# Altium footprint library 监测站_PCBLIB.PcbLib: 30 footprints (part 2 of 2)
Each footprint in its own frame and in the unit in brackets; x right, y up, seen from the top. Pads: shape width x height; smd on the part's side, far side on the other; paste and mask are expansions set on the pad; w line width, h text height; cw(c..) or ccw(c..) is an arc to the next point about the centre after c.
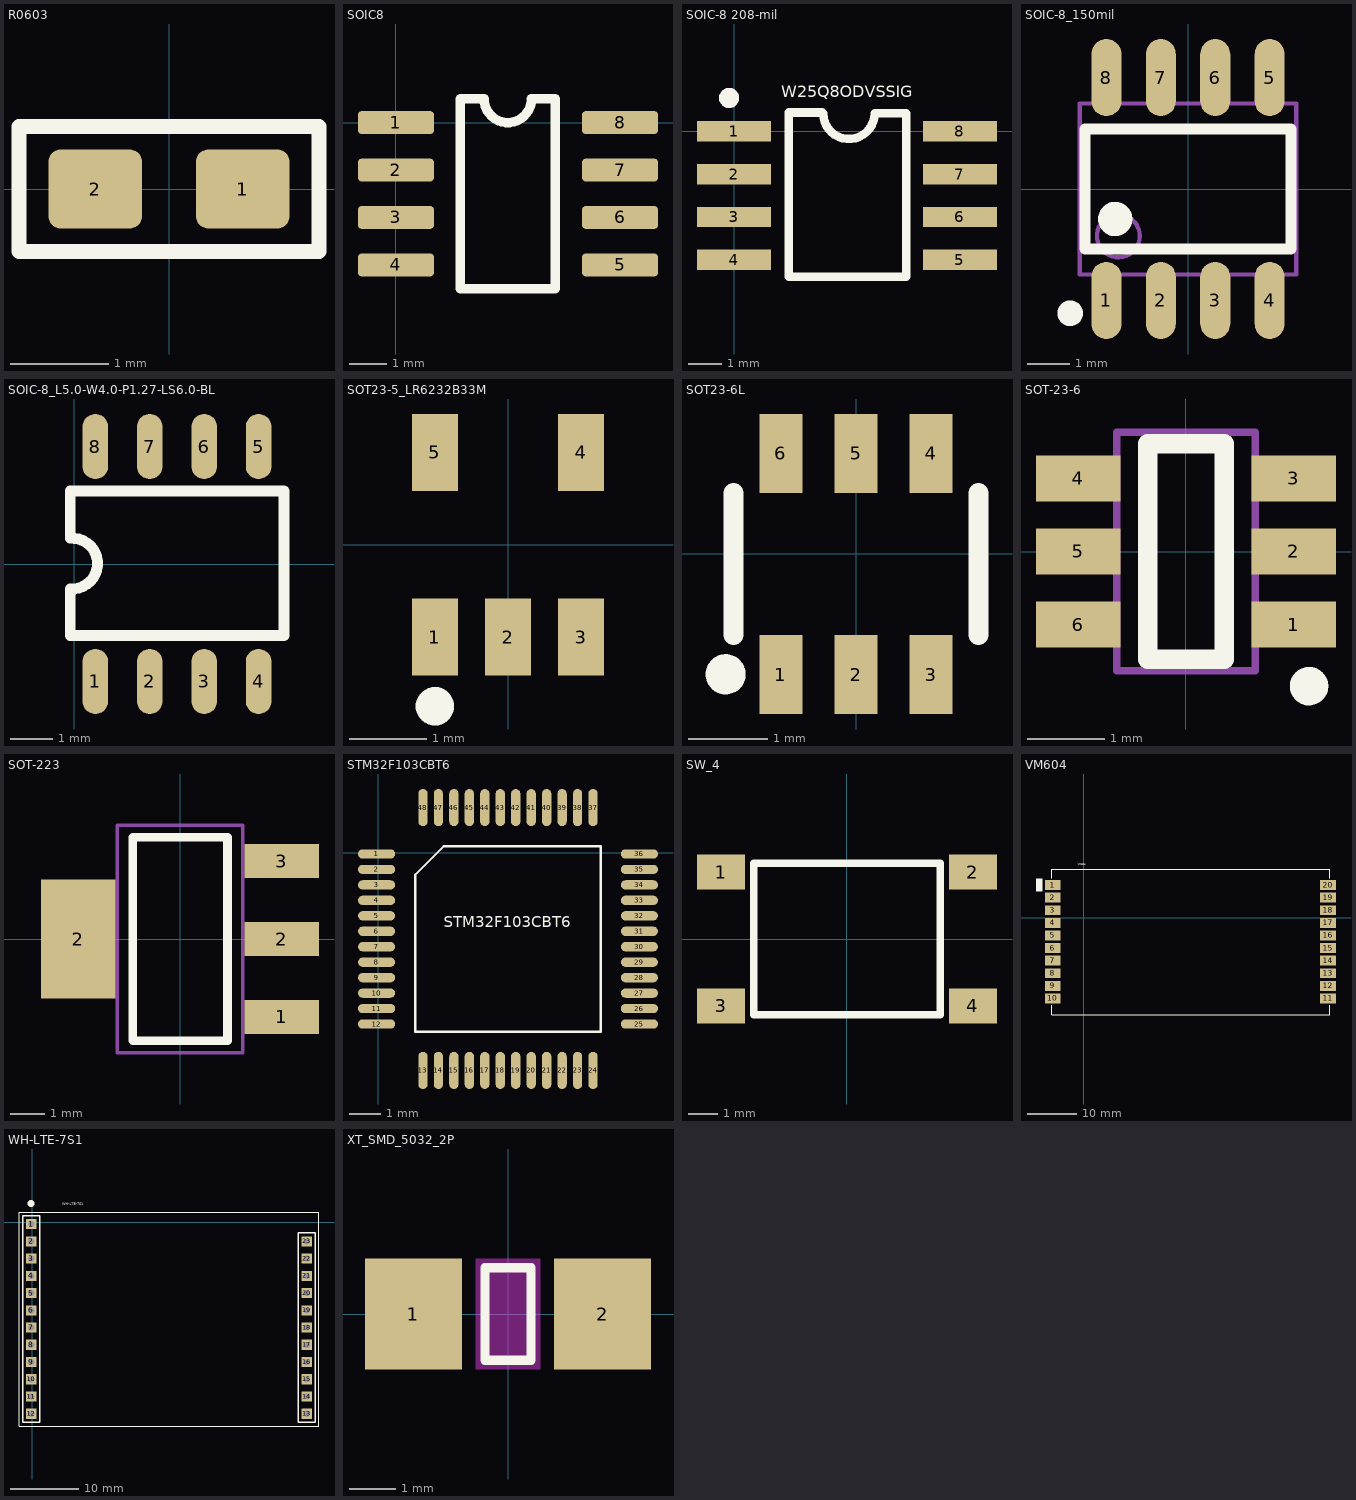
[diagram p1: the footprints below, top view; thin cyan lines are the x and y axes]

## R0603 [mm]
pads (2):
  rrect30% 0.95x0.8 smd: 1(0.75,0) 2(-0.75,0)
Top Overlay:
  lines w0.152: -1.524,-0.635 -1.524,0.635 1.524,0.635 1.524,-0.635 -1.524,-0.635
3D body: height 0.4, standoff 0.1, extent -0.813,-0.406 0.813,0.406

## SOIC8 [mil]
pads (8):
  rrect30% 80x24 smd: 1(0,0) 2(0,-50) 3(0,-100) 4(0,-150) 5(236.22,-150) 6(236.22,-100) 7(236.22,-50) 8(236.22,0)
Top Overlay:
  lines w10: 67.87,-175 167.87,-175 167.87,25 142.87,25 cw(c117.87,25) 92.87,25 67.87,25 67.87,-175

## SOIC-8 208-mil [mm]
pads (8):
  rect 2.2x0.6 smd: 1(0,0) 2(0,-1.27) 3(0,-2.54) 4(0,-3.81) 5(6.7,-3.81) 6(6.7,-2.54) 7(6.7,-1.27) 8(6.7,0)
Top Overlay:
  circle w0.3: c-0.148,0.991 r0.15
  lines w0.254: 2.619,0.559 1.628,0.559 1.628,-4.318 5.108,-4.318 5.108,0.533 4.168,0.533 cw(c3.406,0.533) 2.644,0.533
  text "W25Q8ODVSSIG" at 1.397,0.889 h0.6
3D body: height 1.75, standoff -0.01, extent 0.177,-4.42 6.376,0.58

## SOIC-8_150mil [mm]
pads (8):
  oval 0.7x1.8 smd: 1(-1.905,-2.6) 2(-0.635,-2.6) 3(0.635,-2.6) 4(1.905,-2.6) 5(1.905,2.6) 6(0.635,2.6) 7(-0.635,2.6) 8(-1.905,2.6)
Top Overlay:
  circle w0.3: c-2.75,-2.9 r0.15
  circle w0.4: c-1.7,-0.7 r0.2
  lines w0.254: -2.4,-1.4 2.4,-1.4 2.4,1.4 -2.4,1.4 -2.4,-1.4
Mechanical 13:
  circle w0.1: c-1.625,-1.095 r0.5
  lines w0.1: -2.525,-1.995 2.525,-1.995 2.525,1.995 -2.525,1.995 -2.525,-1.995

## SOIC-8_L5.0-W4.0-P1.27-LS6.0-BL [mm]
pads (8):
  oval 0.6x1.52 smd: 1(0.495,-2.74) 2(1.765,-2.74) 3(3.035,-2.74) 4(4.305,-2.74) 5(4.305,2.74) 6(3.035,2.74) 7(1.765,2.74) 8(0.495,2.74)
Top Overlay:
  lines w0.254: -0.09,-1.671 -0.09,-0.58 ccw(c-0.045,0.01) -0.09,0.6 -0.09,1.7 4.9,1.7 4.9,-1.671 -0.09,-1.671

## SOT23-5_LR6232B33M [mm]
pads (5):
  rect 0.6x1 smd: 1(-0.95,-1.2) 2(0,-1.2) 3(0.95,-1.2) 4(0.95,1.2) 5(-0.95,1.2)
Top Overlay:
  circle w0.3: c-0.95,-2.1 r0.1
3D body: height 1, standoff 0, extent -1.5,-1.453 1.5,1.451

## SOT23-6L [mm]
pads (6):
  rect 0.55x1 smd: 1(-0.95,-1.527) 2(0,-1.527) 3(0.95,-1.527) 4(0.95,1.273) 5(0,1.273) 6(-0.95,1.273)
Top Overlay:
  circle w0.254: c-1.651,-1.524 r0.127
  lines w0.254: -1.55,-1.027 -1.55,0.773 ; 1.55,-1.027 1.55,0.773

## SOT-23-6 [mm]
pads (6):
  rect 1.1x0.6 smd: 1(1.4,-0.95) 2(1.4,0) 3(1.4,0.95) 4(-1.4,0.95) 5(-1.4,0) 6(-1.4,-0.95)
Top Overlay:
  circle w0.25: c1.6,-1.75 r0.125
  lines w0.254: -0.5,-1.4 0.5,-1.4 0.5,1.4 -0.5,1.4 -0.5,-1.4
Mechanical 13:
  lines w0.1: -0.9,-1.55 0.9,-1.55 0.9,1.55 -0.9,1.55 -0.9,-1.55

## SOT-223 [mm]
pads (4):
  rect 2.2x1 smd: 1(3,-2.3) 2(3,0) 3(3,2.3)
  rect 2.2x3.5 smd: 2(-3,0)
Top Overlay:
  lines w0.254: -1.4,-3 -1.4,3 1.4,3 1.4,-3 -1.4,-3
Mechanical 13:
  lines w0.1: -1.85,-3.35 1.85,-3.35 1.85,3.35 -1.85,3.35 -1.85,-3.35
3D body: height 1.64, standoff -0.04, extent -3.49,-3.242 3.49,3.243

## STM32F103CBT6 [mm]
pads (48):
  oval 1.2x0.3 smd: 1(-0.059,-0.044) 2(-0.059,-0.544) 3(-0.059,-1.044) 4(-0.059,-1.544) 5(-0.059,-2.044) 6(-0.059,-2.544) 7(-0.059,-3.044) 8(-0.059,-3.544) 9(-0.059,-4.044) 10(-0.059,-4.544) 11(-0.059,-5.044) 12(-0.059,-5.544) 25(8.441,-5.544) 26(8.441,-5.044) 27(8.441,-4.544) 28(8.441,-4.044) 29(8.441,-3.544) 30(8.441,-3.044) 31(8.441,-2.544) 32(8.441,-2.044) 33(8.441,-1.544) 34(8.441,-1.044) 35(8.441,-0.544) 36(8.441,-0.044)
  oval 0.3x1.2 smd: 13(1.441,-7.044) 14(1.941,-7.044) 15(2.441,-7.044) 16(2.941,-7.044) 17(3.441,-7.044) 18(3.941,-7.044) 19(4.441,-7.044) 20(4.941,-7.044) 21(5.441,-7.044) 22(5.941,-7.044) 23(6.441,-7.044) 24(6.941,-7.044) 37(6.941,1.456) 38(6.441,1.456) 39(5.941,1.456) 40(5.441,1.456) 41(4.941,1.456) 42(4.441,1.456) 43(3.941,1.456) 44(3.441,1.456) 45(2.941,1.456) 46(2.441,1.456) 47(1.941,1.456) 48(1.441,1.456)
Top Overlay:
  lines w0.076: 1.191,-5.794 7.191,-5.794 7.191,0.206 2.111,0.206 1.191,-0.714 1.191,-5.794
  text "STM32F103CBT6" at 2.111,-2.544 h0.6

## SW_4 [mm]
pads (4):
  rect 1.65x1.2 smd: 1(-4.325,2.3) 2(4.325,2.3) 3(-4.325,-2.3) 4(4.325,-2.3)
Top Overlay:
  lines w0.254: -3.2,-2.6 -3.2,2.6 3.2,2.6 3.2,-2.6 -3.2,-2.6

## VM604 [mm]
pads (20):
  rect 3.2x2 smd: 1(-6.277,6.604) 2(-6.277,4.064) 3(-6.277,1.524) 4(-6.277,-1.016) 5(-6.277,-3.556) 6(-6.277,-6.096) 7(-6.277,-8.636) 8(-6.277,-11.176) 9(-6.277,-13.716) 10(-6.277,-16.256) 11(49.203,-16.256) 12(49.203,-13.716) 13(49.203,-11.176) 14(49.203,-8.636) 15(49.203,-6.096) 16(49.203,-3.556) 17(49.203,-1.016) 18(49.203,1.524) 19(49.203,4.064) 20(49.203,6.604)
Top Overlay:
  rectangle: -9.652,5.334 -8.382,7.874
  lines w0.152: -6.477,-17.646 -6.477,-19.551 49.523,-19.551 49.523,-17.646 ; -6.477,7.924 -6.477,9.829 49.523,9.829 49.523,7.924
  text "VM604" at -1.27,10.414 h0.6

## WH-LTE-7S1 [mm]
pads (23):
  rect 1.5x1.5 hole 0.9: 1(-0.127,-0.254) 2(-0.127,-2.794) 3(-0.127,-5.334) 4(-0.127,-7.874) 5(-0.127,-10.414) 6(-0.127,-12.954) 7(-0.127,-15.494) 8(-0.127,-18.034) 9(-0.127,-20.574) 10(-0.127,-23.114) 11(-0.127,-25.654) 12(-0.127,-28.194) 13(40.473,-28.194) 14(40.473,-25.654) 15(40.473,-23.114) 16(40.473,-20.574) 17(40.473,-18.034) 18(40.473,-15.494) 19(40.473,-12.954) 20(40.473,-10.414) 21(40.473,-7.874) 22(40.473,-5.334) 23(40.473,-2.794)
Top Overlay:
  circle w0.762: c-0.149,2.776 r0.127
  lines w0.152: -1.927,-29.994 -1.927,1.506 42.273,1.506 42.273,-29.994 -1.927,-29.994
  lines w0.2: -1.397,-29.464 -1.397,1.016 1.143,1.016 1.143,-0.889 1.143,-29.464 -1.397,-29.464 ; 39.203,-29.464 39.203,-1.524 41.743,-1.524 41.743,-3.429 41.743,-29.464 39.203,-29.464
  text "WH-LTE-7S1" at 4.445,2.413 h0.6

## XT_SMD_5032_2P [mm]
pads (2):
  rect 2.1x2.4 smd: 1(-2.05,0) 2(2.05,0)
Top Overlay:
  lines w0.2: -0.5,-1 0.5,-1 0.5,1 -0.5,1 -0.5,-1
Multi-Layer keep-out:
  rectangle: -0.7,-1.2 0.7,1.2